# Altium footprint library Colour-Sensor.PcbLib: 14 footprints
Each footprint in its own frame and in the unit in brackets; x right, y up, seen from the top. Pads: shape width x height; smd on the part's side, far side on the other; paste and mask are expansions set on the pad; w line width, h text height; cw(c..) or ccw(c..) is an arc to the next point about the centre after c.
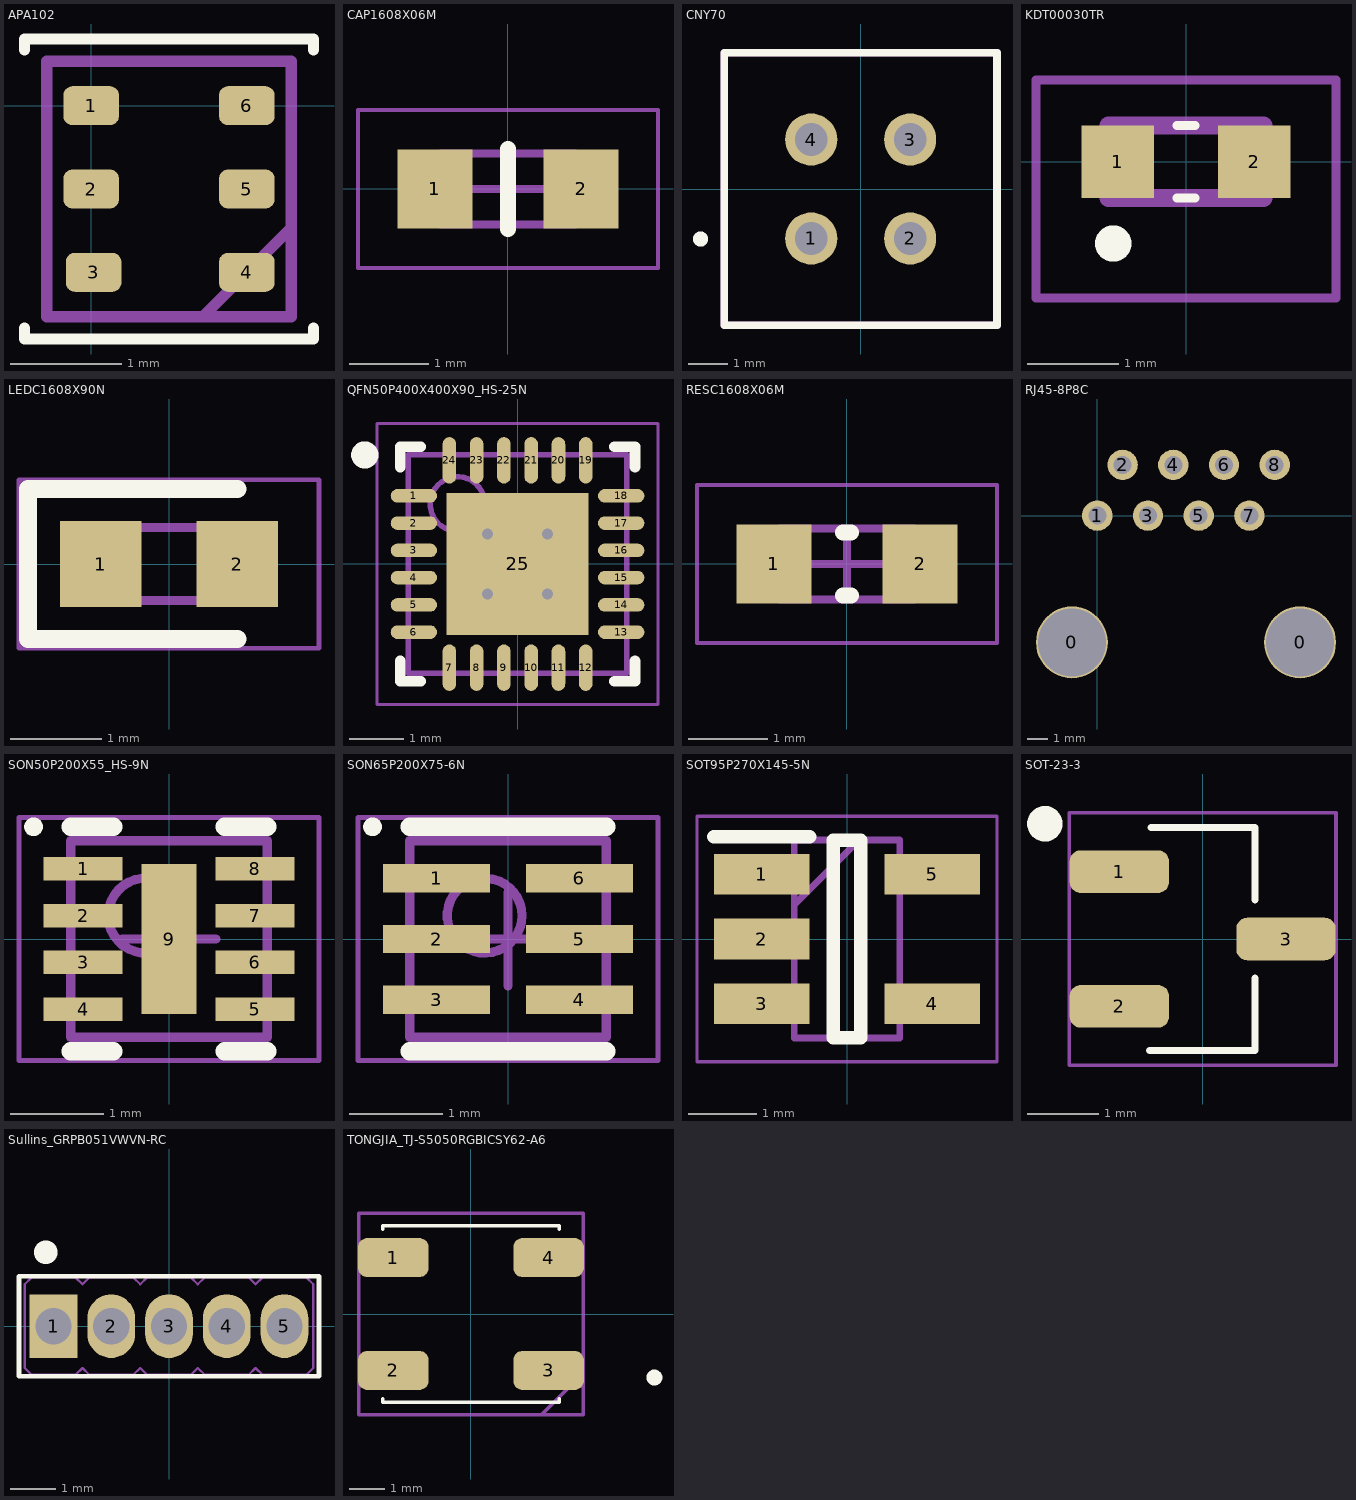
[diagram p0: the footprints below, top view; thin cyan lines are the x and y axes]

## APA102 [mm]
pads (6):
  rrect45% 0.5x0.35 smd paste-0.025 mask+0.05: 1(0,0) 2(0,-0.75) 3(0.021,-1.5) 4(1.4,-1.5) 5(1.4,-0.75) 6(1.4,0)
Top Overlay:
  lines w0.1: -0.6,-2 -0.6,-2.1 2,-2.1 2,-2 ; -0.6,0.5 -0.6,0.6 2,0.6 2,0.5
Mechanical 1:
  lines w0.1: 1,-1.9 1.8,-1.1 ; -0.4,-1.9 -0.4,0.4 1.8,0.4 1.8,-1.9 -0.4,-1.9
  text ".Designator" at -0.6,-2.8 h1
3D body: height 0.9, standoff 0, extent -0.3,-1.775 1.7,0.3

## CAP1608X06M [mm] "Chip Capacitor 2-Leads, Body 1,60x0,80mm, IPC Low Density"
height 0.6
pads (2):
  rect 0.95x1 smd: 1(-0.925,0) 2(0.925,0)
Top Overlay:
  lines w0.2: 0,-0.508 0,0.508
Mechanical 13:
  lines w0.1: -0.85,-0.45 -0.85,0.45 0.85,0.45 0.85,-0.45 -0.85,-0.45
Mechanical 15:
  lines w0.05: -1.9,-1 -1.9,1 1.9,1 1.9,-1 -1.9,-1
  lines w0.1: -0.45,0 0.45,0 ; 0,-0.45 0,0.45
3D body: height 0.6, standoff 0, extent -0.65,-0.45 0.65,0.45
3D body: height 0.6, standoff 0, extent -0.85,-0.45 -0.65,0.45
3D body: height 0.6, standoff 0, extent 0.65,-0.45 0.85,0.45

## CNY70 [mm]
pads (4):
  round 1.34 hole 0.84: 1(-1.27,-1.27) 2(1.27,-1.27) 3(1.27,1.27) 4(-1.27,1.27)
Top Overlay:
  circle w0.2: c-4.109,-1.285 r0.093
  lines w0.2: -3.5,-3.5 3.5,-3.5 3.5,3.5 -3.5,3.5 -3.5,-3.5
Mechanical 13:
  lines w0.2: -3.5,-3.5 -3.5,3.5 3.5,3.5 3.5,-3.5 -3.5,-3.5
3D body "cny70.step": height 6, standoff -5.75, extent -3.5,-3.5 3.5,3.5

## KDT00030TR [mm]
pads (2):
  rect 0.8x0.8 smd: 1(-0.75,0) 2(0.75,0)
Top Overlay:
  lines w0.1: -0.1,-0.4 0.1,-0.4 ; -0.1,0.4 0.1,0.4
  lines w0.2: -0.9,-0.9 ccw(c-0.8,-0.9) -0.7,-0.9 ccw(c-0.8,-0.9) -0.9,-0.9
Mechanical 13:
  lines w0.2: -0.85,-0.4 0.85,-0.4 0.85,0.4 -0.85,0.4 -0.85,-0.4
Mechanical 15:
  lines w0.1: -1.65,-1.5 1.65,-1.5 1.65,0.9 -1.65,0.9 -1.65,-1.5
3D body "KDT00030TR.stp": height 0.7, standoff 0, extent -1.07,-0.4 1.07,0.4

## LEDC1608X90N [mm]
pads (2):
  rect 0.9x0.95 smd: 1(-0.75,0) 2(0.75,0)
Top Overlay:
  lines w0.2: 0.75,-0.825 -1.55,-0.825 -1.55,0.825 0.75,0.825
Mechanical 13:
  lines w0.1: -0.8,0.133 -0.533,0.4 ; -0.8,-0.4 -0.8,0.4 0.8,0.4 0.8,-0.4 -0.8,-0.4
Mechanical 15:
  lines w0.05: -1.65,-0.925 -1.65,0.925 1.65,0.925 1.65,-0.925 -1.65,-0.925
3D body "User Library-LTST-C190EKT.STEP": height 0.9, standoff 0, extent -0.8,-0.45 0.9,0.45

## QFN50P400X400X90_HS-25N [mm] "QFN, 24-Leads, Body 4,00x4,00mm, Pitch 0,50mm, Thermal Pad 2,60x2,60mm, IPC Medium Density"
height 0.9
pads (25):
  oval 0.85x0.25 smd paste+0.05 mask+0.05: 1(-1.9,1.25) 2(-1.9,0.75) 3(-1.9,0.25) 4(-1.9,-0.25) 5(-1.9,-0.75) 6(-1.9,-1.25) 13(1.9,-1.25) 14(1.9,-0.75) 15(1.9,-0.25) 16(1.9,0.25) 17(1.9,0.75) 18(1.9,1.25)
  oval 0.25x0.85 smd paste+0.05 mask+0.05: 7(-1.25,-1.9) 8(-0.75,-1.9) 9(-0.25,-1.9) 10(0.25,-1.9) 11(0.75,-1.9) 12(1.25,-1.9) 19(1.25,1.9) 20(0.75,1.9) 21(0.25,1.9) 22(-0.25,1.9) 23(-0.75,1.9) 24(-1.25,1.9)
  rect 2.6x2.6 smd paste+0.05 mask+0.05: 25(0,0)
via -0.55,0.55 diameter 0.5 hole 0.2
via 0.55,0.55 diameter 0.5 hole 0.2
via -0.55,-0.55 diameter 0.5 hole 0.2
via 0.55,-0.55 diameter 0.5 hole 0.2
Top Overlay:
  circle w0.25: c-2.8,2 r0.125
  lines w0.2: -2.15,-1.775 -2.15,-2.15 -1.775,-2.15 ; -2.15,1.775 -2.15,2.15 -1.775,2.15 ; 1.775,-2.15 2.15,-2.15 2.15,-1.775 ; 1.775,2.15 2.15,2.15 2.15,1.775
Mechanical 13:
  circle w0.1: c-1.1,1.1 r0.5
  lines w0.1: -2,-2 -2,2 2,2 2,-2 -2,-2
Mechanical 15:
  lines w0.05: -2.575,-2.575 -2.575,2.575 2.575,2.575 2.575,-2.575 -2.575,-2.575
  lines w0.1: -0.5,0 0.5,0 ; 0,-0.5 0,0.5
3D body "QFN50P400X400X90_HS-25N.step": height 0.9, standoff 0, extent -2.001,-2.001 2.001,2.001

## RESC1608X06M [mm] "Chip Resistor, 2-Leads, Body 1,60x0,80mm, IPC Low Density"
height 0.6
pads (2):
  rect 0.95x1 smd: 1(-0.925,0) 2(0.925,0)
Top Overlay:
  lines w0.2: -0.05,-0.4 0.05,-0.4 ; -0.05,0.4 0.05,0.4
Mechanical 13:
  lines w0.1: -0.85,-0.45 -0.85,0.45 0.85,0.45 0.85,-0.45 -0.85,-0.45
Mechanical 15:
  lines w0.05: -1.9,-1 -1.9,1 1.9,1 1.9,-1 -1.9,-1
  lines w0.1: -0.45,0 0.45,0 ; 0,-0.45 0,0.45
3D body: height 0.6, standoff 0, extent -0.65,-0.45 0.65,0.45
3D body: height 0.6, standoff 0, extent -0.85,-0.45 -0.65,0.45
3D body: height 0.6, standoff 0, extent 0.65,-0.45 0.85,0.45

## RJ45-8P8C [mil]
pads (10):
  round 141.73 hole 133.86: 0(-50,-250) 0(400,-250)
  round 60 hole 35.43: 1(0,0) 2(50,100) 3(100,0) 4(150,100) 5(200,0) 6(250,100) 7(300,0) 8(350,100)
3D body "rj45_144-L.STEP": height 637.68, standoff -150.35, extent -135.7,-665.47 484.37,145.47

## SON50P200X55_HS-9N [mm] "SON, 8-Leads, Body 2,00x2,00mm, Pitch 0,50mm, Thermal Pad 1,60x0,59mm, IPC Medium Density"
height 0.55
pads (9):
  rect 0.85x0.25 smd: 1(-0.92,0.75) 2(-0.92,0.25) 3(-0.92,-0.25) 4(-0.92,-0.75) 5(0.92,-0.75) 6(0.92,-0.25) 7(0.92,0.25) 8(0.92,0.75)
  rect 0.59x1.6 smd: 9(0,0)
Top Overlay:
  circle w0.1: c-1.45,1.2 r0.05
  lines w0.2: -1.05,-1.2 -0.595,-1.2 ; -1.05,1.2 -0.595,1.2 ; 0.595,-1.2 1.05,-1.2 ; 0.595,1.2 1.05,1.2
Mechanical 13:
  circle w0.1: c-0.25,0.25 r0.4
  lines w0.1: -1.05,-1.05 1.05,-1.05 1.05,1.05 -1.05,1.05 -1.05,-1.05
Mechanical 15:
  lines w0.05: -1.605,-1.3 1.605,-1.3 1.605,1.3 -1.605,1.3 -1.605,-1.3
  lines w0.1: -0.5,0 0.5,0 ; 0,-0.5 0,0.5
3D body "SON50P200X55_HS-9N.step": height 0.55, standoff 0, extent -1.05,-1.05 1.05,1.05

## SON65P200X75-6N [mm] "SON, 6-Leads, Body 2,00x2,00mm, Pitch 0,65mm, IPC Medium Density"
height 0.75
pads (6):
  rect 1.15x0.3 smd: 1(-0.765,0.65) 2(-0.765,0) 3(-0.765,-0.65) 4(0.765,-0.65) 5(0.765,0) 6(0.765,0.65)
Top Overlay:
  circle w0.1: c-1.45,1.2 r0.05
  lines w0.2: -1.05,-1.2 1.05,-1.2 ; -1.05,1.2 1.05,1.2
Mechanical 13:
  circle w0.1: c-0.25,0.25 r0.4
  lines w0.1: -1.05,-1.05 1.05,-1.05 1.05,1.05 -1.05,1.05 -1.05,-1.05
Mechanical 15:
  lines w0.05: -1.605,-1.3 1.605,-1.3 1.605,1.3 -1.605,1.3 -1.605,-1.3
  lines w0.1: -0.5,0 0.5,0 ; 0,-0.5 0,0.5
3D body "SON65P200X75-6N.step": height 0.75, standoff 0, extent -1.05,-1.05 1.05,1.05

## SOT95P270X145-5N [mm]
pads (5):
  rect 1.4x0.6 smd: 1(-1.25,0.95) 2(-1.25,0) 3(-1.25,-0.95) 4(1.25,-0.95) 5(1.25,0.95)
Top Overlay:
  lines w0.2: -1.95,1.5 -0.55,1.5 ; -0.2,-1.45 -0.2,1.45 0.2,1.45 0.2,-1.45 -0.2,-1.45
Mechanical 13:
  lines w0.1: -0.775,0.5 0.175,1.45 ; -0.775,-1.45 -0.775,1.45 0.775,1.45 0.775,-1.45 -0.775,-1.45
Mechanical 15:
  lines w0.05: -2.2,-1.8 -2.2,1.8 2.2,1.8 2.2,-1.8 -2.2,-1.8
3D body "MCP6001T-I_OT.stp": height 1.45, standoff 0, extent -1.35,-1.45 1.35,1.45

## SOT-23-3 [mm]
pads (3):
  rrect50% 1.4x0.6 smd paste-0.025 mask+0.05: 1(-1.175,0.95) 2(-1.175,-0.95) 3(1.175,0)
Top Overlay:
  circle w0.25: c-2.225,1.625 r0.125
  lines w0.1: -0.75,-1.575 0.74,-1.575 0.74,-0.55 ; -0.725,1.575 0.74,1.575 0.74,0.55
Mechanical 1:
  circle w0.25: c-1.175,0.95 r0.125
  lines w0.05: -1.88,-1.78 1.88,-1.78 1.88,1.78 -1.88,1.78 -1.88,-1.78
  text ".Designator" at 0.45,-0.45 h0.8
3D body "SOT95P255X140-3.STEP": height 1.4, standoff 0, extent -1.5,-1.525 1.5,1.525

## Sullins_GRPB051VWVN-RC [mm]
pads (5):
  rect 1.05x1.4 hole 0.8 paste-2 mask+0.05: 1(-2.54,0)
  rrect100% 1.05x1.4 hole 0.8 paste-2 mask+0.05: 2(-1.27,0) 3(0,0) 4(1.27,0) 5(2.54,0)
Top Overlay:
  lines w0.1: -3.3,-1.1 -3.3,1.1 3.3,1.1 3.3,-1.1 -3.3,-1.1
  lines w0.5: -2.704,1.633 ccw(c-2.71,1.625) -2.7,1.625
Mechanical 1:
  lines w0.05: -2.74,-0.2 -2.74,0.2 ; -2.74,-0.2 -2.652,-0.112 ; -2.74,-0.2 -2.34,-0.2 ; -2.74,0.2 -2.652,0.112 ; -2.74,0.2 -2.34,0.2 ; -2.652,-0.112 -2.652,0.112 ; -2.652,-0.112 -2.428,-0.112 ; -2.652,0.112 -2.428,0.112 ; -2.428,-0.112 -2.428,0.112 ; -2.428,-0.112 -2.34,-0.2 ; -2.428,0.112 -2.34,0.2 ; -2.34,-0.2 -2.34,0.2 ; -1.47,-0.2 -1.47,0.2 ; -1.47,-0.2 -1.382,-0.112 ; -1.47,-0.2 -1.07,-0.2 ; -1.47,0.2 -1.382,0.112 ; -1.47,0.2 -1.07,0.2 ; -1.382,-0.112 -1.382,0.112 ; -1.382,-0.112 -1.158,-0.112 ; -1.382,0.112 -1.158,0.112 ; -1.158,-0.112 -1.158,0.112 ; -1.158,-0.112 -1.07,-0.2 ; -1.158,0.112 -1.07,0.2 ; -1.07,-0.2 -1.07,0.2 ; -0.2,-0.2 0.2,-0.2 ; -0.2,-0.2 -0.2,0.2 ; -0.2,-0.2 -0.112,-0.112 ; -0.2,0.2 0.2,0.2 ; -0.2,0.2 -0.112,0.112 ; -0.112,-0.112 0.112,-0.112 ; -0.112,-0.112 -0.112,0.112 ; -0.112,0.112 0.112,0.112 ; 0.112,-0.112 0.112,0.112 ; 0.112,-0.112 0.2,-0.2 ; 0.112,0.112 0.2,0.2 ; 0.2,-0.2 0.2,0.2 ; 1.07,-0.2 1.07,0.2 ; 1.07,-0.2 1.158,-0.112 ; 1.07,-0.2 1.47,-0.2 ; 1.07,0.2 1.158,0.112 ; 1.07,0.2 1.47,0.2 ; 1.158,-0.112 1.158,0.112 ; 1.158,-0.112 1.382,-0.112 ; 1.158,0.112 1.382,0.112 ; 1.382,-0.112 1.382,0.112 ; 1.382,-0.112 1.47,-0.2 ; 1.382,0.112 1.47,0.2 ; 1.47,-0.2 1.47,0.2 ; 2.34,-0.2 2.34,0.2 ; 2.34,-0.2 2.428,-0.112 ; 2.34,-0.2 2.74,-0.2 ; 2.34,0.2 2.428,0.112 ; 2.34,0.2 2.74,0.2 ; 2.428,-0.112 2.428,0.112 ; 2.428,-0.112 2.652,-0.112 ; 2.428,0.112 2.652,0.112 ; 2.652,-0.112 2.652,0.112 ; 2.652,-0.112 2.74,-0.2 ; 2.652,0.112 2.74,0.2 ; 2.74,-0.2 2.74,0.2 ; -3.175,-0.92 -3.175,0.92 -3.025,1.07 -2.055,1.07 -1.905,0.92 -1.755,1.07 -0.785,1.07 -0.635,0.92 -0.485,1.07 0.485,1.07 0.635,0.92 0.785,1.07 1.755,1.07 1.905,0.92 2.055,1.07 3.025,1.07 3.175,0.92 3.175,-0.92 3.025,-1.07 2.055,-1.07 1.905,-0.92 1.755,-1.07 0.785,-1.07 0.635,-0.92 0.485,-1.07 -0.485,-1.07 -0.635,-0.92 -0.785,-1.07 -1.755,-1.07 -1.905,-0.92 -2.055,-1.07 -3.025,-1.07 -3.175,-0.92
  text ".Designator" at -1.2,1.5 h0.8
3D body "SULLINS_GRPB051VWVN-RC.STEP": height 4, standoff -2.3, extent -3.175,-1.07 3.175,1.07

## TONGJIA_TJ-S5050RGBICSY62-A6 [mm]
pads (4):
  rrect45% 2x1.1 smd paste-0.025 mask+0.05: 1(-2.2,1.6) 2(-2.2,-1.6) 3(2.2,-1.6) 4(2.2,1.6)
Top Overlay:
  circle w0.25: c5.2,-1.8 r0.1
  lines w0.1: -2.5,-2.4 -2.5,-2.5 2.5,-2.5 2.5,-2.4 ; -2.5,2.4 -2.5,2.5 2.5,2.5 2.5,2.4
Mechanical 1:
  lines w0.1: 2.012,-2.838 3.175,-1.675 ; -3.18,-2.85 -3.18,2.85 3.18,2.85 3.18,-2.85 -3.18,-2.85
  text ".Designator" at -2.075,-0.175 h1
3D body: height 1.6, standoff 0, extent -2.5,-2.5 2.5,2.5